# Altium schematic symbol library Integrated_Library1.SCHLIB: 1 symbol
Pins are listed as number, name and electrical type; pins without a type are passive.

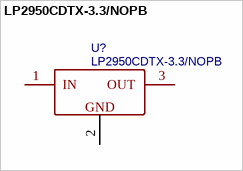
[diagram p0: symbol LP2950CDTX-3.3/NOPB]

## LP2950CDTX-3.3/NOPB
designator U?
BOM_Manufacturer: TI; Contributor: LCSC; BOM_Supplier: LCSC; BOM_Manufacturer Part: LP2950CDTX-3.3/NOPB; BOM_Supplier Part: C129994; BOM_JLCPCB Part Class: Extended Part; spicePre: U; spiceSymbolName: LP2950CDTX-3.3/NOPB
footprint TO-252-2_L6.6-W6.1-P4.57-LS9.9-BR-CW
pins: 1 IN, 2 GND, 3 OUT